# Altium integrated library Allegro Interface Servo Motor Controller Driver.IntLib: 1 symbol
Pins are listed as number, name and electrical type; pins without a type are passive.

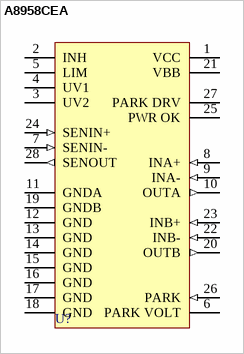
[diagram p0: symbol A8958CEA]

## A8958CEA
designator U?
Voice Coil Motor Driver; Note: Pins (12-18) exist as a TAB; all are internally connected (GND).; ComponentAvailability: Obsolete; Published: 13-Oct-2000; LatestRevisionDate: 13-Apr-2006; LatestRevisionNote: IPC-7351 Footprint Added.; DatasheetVersion: 1995; PackageVersion: 1995; PackageReference: EA28; Publisher: Altium Limited; PackageDescription: 28-Pin Leaded Chip Carrier 1.27 mm Pitch; Code_IPC: PLCC-28; ComponentLink1Description: Manufacturer Link; ComponentLink1URL: http://www.allegromicro.com/; ComponentLink2Description: Datasheet; ComponentLink2URL: http://www.allegromicro.com/datafile/archive/8958.pdf
footprint EA28_N (Leaded Chip Carrier, 28-Leads, Body 11.5x11.5mm, Pitch 1.27mm, IPC Medium Density)
footprint EA28_L (Leaded Chip Carrier, 28-Leads, Body 11.5x11.5mm, Pitch 1.27mm, IPC High Density)
footprint EA28_M (Leaded Chip Carrier, 28-Leads, Body 11.5x11.5mm, Pitch 1.27mm, IPC Low Density)
3D model A8958-EA28 (28-Pin Leaded Chip Carrier 1.27 mm Pitch)
pins: 1 VCC (power), 2 INH, 3 UV2, 4 UV1, 5 LIM, 6 PARK VOLT, 7 SENIN- (in), 8 INA+ (in), 9 INA- (in), 10 OUTA (out), 11 GNDA (power), 12 GND (power), 13 GND (power), 14 GND (power), 15 GND (power), 16 GND (power), 17 GND (power), 18 GND (power), 19 GNDB (power), 20 OUTB (out), 21 VBB (power), 22 INB- (in), 23 INB+ (in), 24 SENIN+ (in), 25 PWR OK (oc), 26 PARK (in), 27 PARK DRV, 28 SENOUT (out)